# Altium schematic symbol library ANT_PCB_TAG_RTLS.Schlib: 1 symbol
Pins are listed as number, name and electrical type; pins without a type are passive.

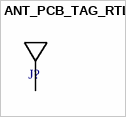
[diagram p0: symbol ANT_PCB_TAG_RTLS]

## ANT_PCB_TAG_RTLS
designator J?  (value not drawn)  (no BOM)
pins: 1